# Altium footprint library PcbLib2.PcbLib: 11 footprints
Each footprint in its own frame and in the unit in brackets; x right, y up, seen from the top. Pads: shape width x height; smd on the part's side, far side on the other; paste and mask are expansions set on the pad; w line width, h text height; cw(c..) or ccw(c..) is an arc to the next point about the centre after c.
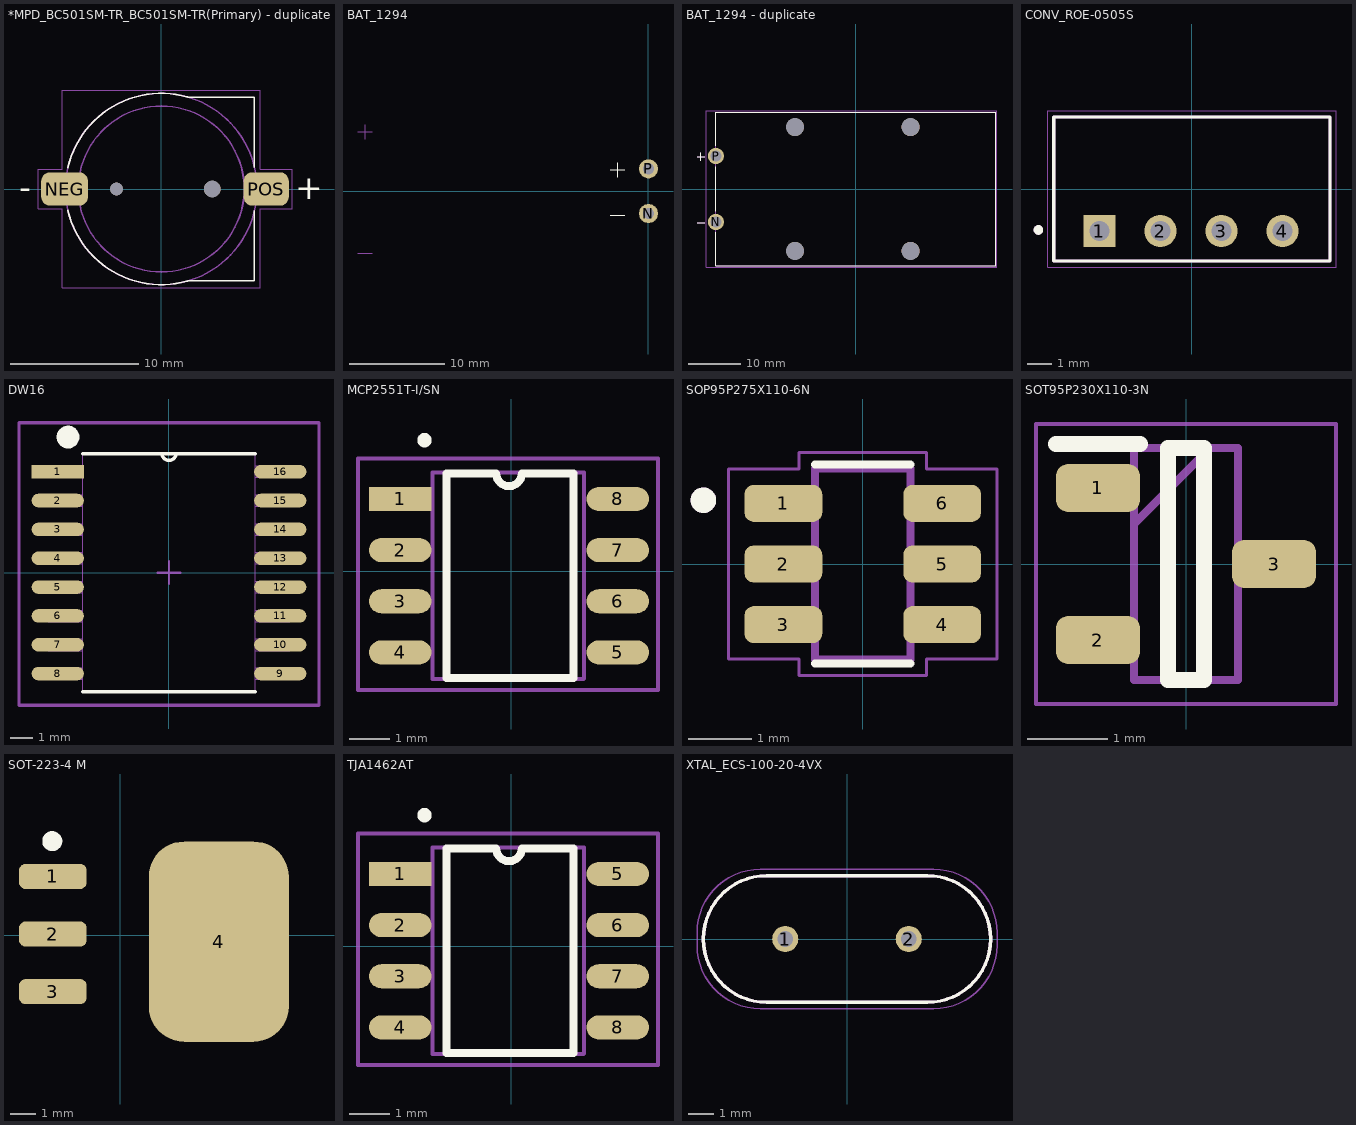
[diagram p0: the footprints below, top view; thin cyan lines are the x and y axes]

## *MPD_BC501SM-TR_BC501SM-TR(Primary) - duplicate [mm]
pads (4):
  rrect50% 3.66x2.6 smd: NEG(-7.57,0)
  round 1 hole 1 unplated: None(-3.5,0)
  round 1.3 hole 1.3 unplated: None(4,0)
  rrect50% 3.54x2.6 smd: POS(8.23,0)
Top Overlay:
  lines w0.127: -7.305,-1.679 ccw(c0.01,0.01) 2.079,-7.206 ; -7.305,1.679 cw(c0.01,-0.01) 2.079,7.206 ; 2.1,-7.2 7.3,-7.2 7.3,-1.7 ; 2.1,7.2 7.3,7.2 7.3,1.7
  text "-" at -11.14,-0.77 h1.88
  text "+" at 10.49,-0.82 h1.88
Mechanical 4:
  circle w0.127: c0.01,0 r6.5
  circle w0.127: c0,0 r7.5
  circle w0.127: c0.01,0 r6.5
  circle w0.127: c0,0 r7.5
Mechanical 16:
  lines w0.05: -9.65,-1.55 -9.65,1.55 -7.75,1.55 -7.75,7.75 7.75,7.75 7.75,1.55 10.25,1.55 10.25,-1.55 7.75,-1.55 7.75,-7.75 -7.75,-7.75 -7.75,-1.55 -9.65,-1.55
3D body "BC501SM.STEP": height 4.2, standoff -0.74, extent -8.754,-7.49 9.246,7.491

## BAT_1294 [mm]
height 20.32
pads (2):
  round 2 hole 1.2: N(0,-2.35) P(0,2.35)
Top Overlay:
  lines w0.127: -4,-2.52 -2.5,-2.52 ; -4,2.23 -2.5,2.23 ; -3.25,1.48 -3.25,2.98
Mechanical 13:
  lines w0.127: -30.56,-6.52 -29.06,-6.52 ; -30.56,6.23 -29.06,6.23 ; -29.81,5.48 -29.81,6.98

## BAT_1294 - duplicate [mm]
height 20.32
pads (6):
  round 3.126 hole 2.11: N(-26.925,-6.35) P(-26.925,6.35)
  round 3.45 hole 3.45 unplated: ""(-11.685,-11.915) ""(-11.685,11.915) ""(10.545,-11.915) ""(10.545,11.915)
Top Overlay:
  lines w0.127: -30.56,-6.52 -29.06,-6.52 ; -30.56,6.23 -29.06,6.23 ; -29.81,5.48 -29.81,6.98 ; -26.925,-8.35 -26.925,-14.785 26.925,-14.785 26.925,14.785 -26.925,14.785 -26.925,8.35 ; -26.925,-4.3 -26.925,4.3
Mechanical 13:
  lines w0.127: -30.56,-6.52 -29.06,-6.52 ; -30.56,6.23 -29.06,6.23 ; -29.81,5.48 -29.81,6.98 ; -26.925,-14.785 26.925,-14.785 26.925,14.785 -26.925,14.785 -26.925,-14.785
Mechanical 15:
  lines w0.05: -28.82,-15.035 -28.82,15.035 27.175,15.035 27.175,-15.035 -28.82,-15.035
3D body "step_temp.STEP": height 20.32, standoff -7.62, extent -27.229,-14.783 26.924,14.783

## CONV_ROE-0505S [mm]
pads (4):
  rect 1.338x1.338 hole 0.83: 1(-3.85,-1.75)
  round 1.338 hole 0.83: 2(-1.31,-1.75) 3(1.23,-1.75) 4(3.77,-1.75)
Top Overlay:
  circle w0.2: c-6.39,-1.705 r0.1
  lines w0.127: -5.75,-3 5.75,-3 5.75,3 -5.75,3 -5.75,-3
Mechanical 13:
  circle w0.2: c-6.39,-1.705 r0.1
  lines w0.127: -5.75,-3 5.75,-3 5.75,3 -5.75,3 -5.75,-3
Mechanical 15:
  lines w0.05: -6,-3.25 6,-3.25 6,3.25 -6,3.25 -6,-3.25
3D body "ROE-0505S.step": height 9.5, standoff -4.6, extent -5.75,-3 5.75,3

## DW16 [mm]
pads (16):
  rect 2.3x0.6 smd: 1(-4.9,4.445)
  oval 2.3x0.6 smd: 2(-4.9,3.175) 3(-4.9,1.905) 4(-4.9,0.635) 5(-4.9,-0.635) 6(-4.9,-1.905) 7(-4.9,-3.175) 8(-4.9,-4.445) 9(4.9,-4.445) 10(4.9,-3.175) 11(4.9,-1.905) 12(4.9,-0.635) 13(4.9,0.635) 14(4.9,1.905) 15(4.9,3.175) 16(4.9,4.445)
Top Overlay:
  circle w0.5: c-4.445,5.969 r0.25
  lines w0.152: -3.797,-5.245 3.797,-5.245 ; -3.797,5.245 3.797,5.245 ; -0.305,5.245 ccw(c0,5.245) 0.305,5.245
Mechanical 1:
  lines w0: -0.305,5.245 ccw(c0,5.245) 0.305,5.245 ; -5.321,-4.699 -3.797,-4.699 -3.797,-4.191 -5.321,-4.191 -5.321,-4.699 ; -5.321,-3.429 -3.797,-3.429 -3.797,-2.921 -5.321,-2.921 -5.321,-3.429 ; -5.321,-2.159 -3.797,-2.159 -3.797,-1.651 -5.321,-1.651 -5.321,-2.159 ; -5.321,-0.889 -3.797,-0.889 -3.797,-0.381 -5.321,-0.381 -5.321,-0.889 ; -5.321,0.381 -3.797,0.381 -3.797,0.889 -5.321,0.889 -5.321,0.381 ; -5.321,1.651 -3.797,1.651 -3.797,2.159 -5.321,2.159 -5.321,1.651 ; -5.321,2.921 -3.797,2.921 -3.797,3.429 -5.321,3.429 -5.321,2.921 ; -5.321,4.191 -3.797,4.191 -3.797,4.699 -5.321,4.699 -5.321,4.191 ; -3.797,-5.245 -3.797,5.245 3.797,5.245 3.797,-5.245 -3.797,-5.245 ; 3.797,-4.699 5.321,-4.699 5.321,-4.191 3.797,-4.191 3.797,-4.699 ; 3.797,-3.429 5.321,-3.429 5.321,-2.921 3.797,-2.921 3.797,-3.429 ; 3.797,-2.159 5.321,-2.159 5.321,-1.651 3.797,-1.651 3.797,-2.159 ; 3.797,-0.889 5.321,-0.889 5.321,-0.381 3.797,-0.381 3.797,-0.889 ; 3.797,0.381 5.321,0.381 5.321,0.889 3.797,0.889 3.797,0.381 ; 3.797,1.651 5.321,1.651 5.321,2.159 3.797,2.159 3.797,1.651 ; 3.797,2.921 5.321,2.921 5.321,3.429 3.797,3.429 3.797,2.921 ; 3.797,4.191 5.321,4.191 5.321,4.699 3.797,4.699 3.797,4.191
Mechanical 15:
  lines w0.1: -0.5,0 0.5,0 ; 0,-0.5 0,0.5
  lines w0.152: -6.604,-5.842 6.604,-5.842 6.604,5.842 6.604,6.604 -6.604,6.604 -6.604,-5.842
3D body "Yeni Metin Belgesi (3).STEP": height 2.59, standoff 0, extent -5.167,-5.15 5.167,5.15

## MCP2551T-I/SN [mm]
pads (8):
  rect 1.55x0.6 smd: 1(-2.75,1.79)
  oval 1.55x0.6 smd: 2(-2.75,0.52) 3(-2.75,-0.75) 4(-2.75,-2.02) 5(2.65,-2.02) 6(2.65,-0.75) 7(2.65,0.52) 8(2.65,1.79)
Top Overlay:
  circle w0.254: c-2.15,3.25 r0.05
  lines w0.2: -1.6,-2.655 1.55,-2.655 1.55,2.425 0.268,2.425 cw(c-0.05,2.425) -0.367,2.425 -1.6,2.425 -1.6,-2.655
Mechanical 13:
  lines w0.1: 1.8,-2.685 -1.945,-2.685 -1.945,2.445 1.815,2.445 1.815,-2.67
Mechanical 15:
  lines w0.1: -3.8,-2.95 -3.8,2.8 3.65,2.8 3.65,2.55 3.65,-2.95 -3.8,-2.95
3D body "SOIC8-N_MC_MCH.step": height 1.76, standoff 0, extent -2.987,-2.586 3.007,2.316

## SOP95P275X110-6N [mm]
pads (6):
  rrect50% 1.22x0.58 smd: 1(-1.245,0.95) 2(-1.245,0) 3(-1.245,-0.95) 4(1.245,-0.95) 5(1.245,0) 6(1.245,0.95)
Top Overlay:
  circle w0.2: c-2.5,1 r0.1
  lines w0.127: -0.75,-1.56 0.75,-1.56 ; -0.75,1.56 0.75,1.56
Mechanical 13:
  circle w0.2: c-2.5,1 r0.1
  lines w0.127: -0.75,-1.5 0.75,-1.5 0.75,1.5 -0.75,1.5 -0.75,-1.5
Mechanical 15:
  lines w0.05: -2.105,-1.49 -2.105,1.49 -1,1.49 -1,1.75 1,1.75 1,1.49 2.105,1.49 2.105,-1.49 1,-1.49 1,-1.75 -1,-1.75 -1,-1.49 -2.105,-1.49
3D body "step_temp.STEP": height 1.1, standoff 0, extent -1.375,-1.565 1.375,1.385

## SOT95P230X110-3N [mm]
pads (3):
  rrect50% 1.05x0.6 smd: 1(-1.1,0.95) 2(-1.1,-0.95) 3(1.1,0)
Top Overlay:
  lines w0.2: -1.625,1.5 -0.575,1.5 ; -0.225,-1.45 -0.225,1.45 0.225,1.45 0.225,-1.45 -0.225,-1.45
Mechanical 13:
  lines w0.1: -0.65,0.5 0.3,1.45 ; -0.65,-1.45 -0.65,1.45 0.65,1.45 0.65,-1.45 -0.65,-1.45
Mechanical 15:
  lines w0.05: -1.875,-1.75 -1.875,1.75 1.875,1.75 1.875,-1.75 -1.875,-1.75
3D body "PESD2CAN,215.stp": height 1.1, standoff 0, extent -1.15,-1.45 1.15,1.45

## SOT-223-4 M [mm]
pads (4):
  rrect50% 2.7x1 smd paste-0.102 mask+0.051: 1(-2.696,2.351) 2(-2.696,0.051) 3(-2.696,-2.249)
  rrect50% 5.588x8.001 smd paste-0.102 mask+0.051: 4(3.937,-0.254)
Top Overlay:
  circle w0.4: c-2.718,3.759 r0.2
3D body "SW3dPS-SOT-223-1.STEP": height 1.63, standoff -0.02, extent -3.5,-3.25 3.5,3.25

## TJA1462AT [mm]
pads (8):
  rect 1.55x0.6 smd: 1(-2.75,1.79)
  oval 1.55x0.6 smd: 2(-2.75,0.52) 3(-2.75,-0.75) 4(-2.75,-2.02) 5(2.65,1.79) 6(2.65,0.52) 7(2.65,-0.75) 8(2.65,-2.02)
Top Overlay:
  circle w0.254: c-2.15,3.25 r0.05
  lines w0.2: -1.6,-2.655 1.55,-2.655 1.55,2.425 0.268,2.425 cw(c-0.05,2.425) -0.367,2.425 -1.6,2.425 -1.6,-2.655
Mechanical 13:
  lines w0.1: 1.8,-2.685 -1.945,-2.685 -1.945,2.445 1.815,2.445 1.815,-2.67
Mechanical 15:
  lines w0.1: -3.8,-2.95 -3.8,2.8 3.65,2.8 3.65,2.55 3.65,-2.95 -3.8,-2.95
3D body "SOIC8-N_MC_MCH.step": height 1.76, standoff 0, extent -2.987,-2.586 3.007,2.316

## XTAL_ECS-100-20-4VX [mm]
pads (2):
  round 1.03 hole 0.63: 1(-2.44,0) 2(2.44,0)
Top Overlay:
  lines w0.127: -5.675,-0.002 ccw(c-3.177,-0.002) -3.177,-2.5 ; -5.675,0.002 cw(c-3.177,0.002) -3.177,2.5 ; -3.18,-2.5 3.18,-2.5 ; -3.18,2.5 3.18,2.5 ; 3.177,-2.5 ccw(c3.177,-0.002) 5.675,-0.002 ; 3.177,2.5 cw(c3.177,0.002) 5.675,0.002
Mechanical 13:
  lines w0.127: -5.675,0 ccw(c-3.175,0) -3.175,-2.5 3.175,-2.5 ccw(c3.175,0) 5.675,0 ccw(c3.175,0) 3.175,2.5 -3.175,2.5 ccw(c-3.175,0) -5.675,0
Mechanical 15:
  lines w0.05: -5.925,-0.25 ccw(c-3.425,-0.25) -3.425,-2.75 3.425,-2.75 ccw(c3.425,-0.25) 5.925,-0.25 5.925,0.25 ccw(c3.425,0.25) 3.425,2.75 -3.425,2.75 ccw(c-3.425,0.25) -5.925,0.25 -5.925,-0.25
3D body "step_temp.STEP": height 2.1, standoff -12, extent -5.471,-2.5 5.879,2.5